# Altium schematic symbol library LMP8601.SchLib: 1 symbol
Pins are listed as number, name and electrical type; pins without a type are passive.

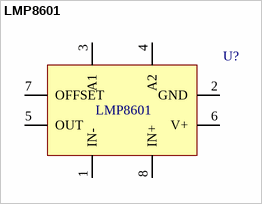
[diagram p0: symbol LMP8601]

## LMP8601
designator U?
Current Shunt Monitor; Manufacturer: National; Type: IC; Footprint: SOIC-8; Manufacturer P/N: LMP8601; CMW P/N: CMW P/N; Cost: $; Value: LMP8601
simulation model LMP8271 (Current Sense Amplifier)
footprint SO-8-SST
pins: 1 IN-, 2 GND (power), 3 A1, 4 A2, 5 OUT, 6 V+ (power), 7 OFFSET, 8 IN+